# Altium schematic symbol library SEMATIK_LIB.SchLib: 632 symbols (part 2 of 21)
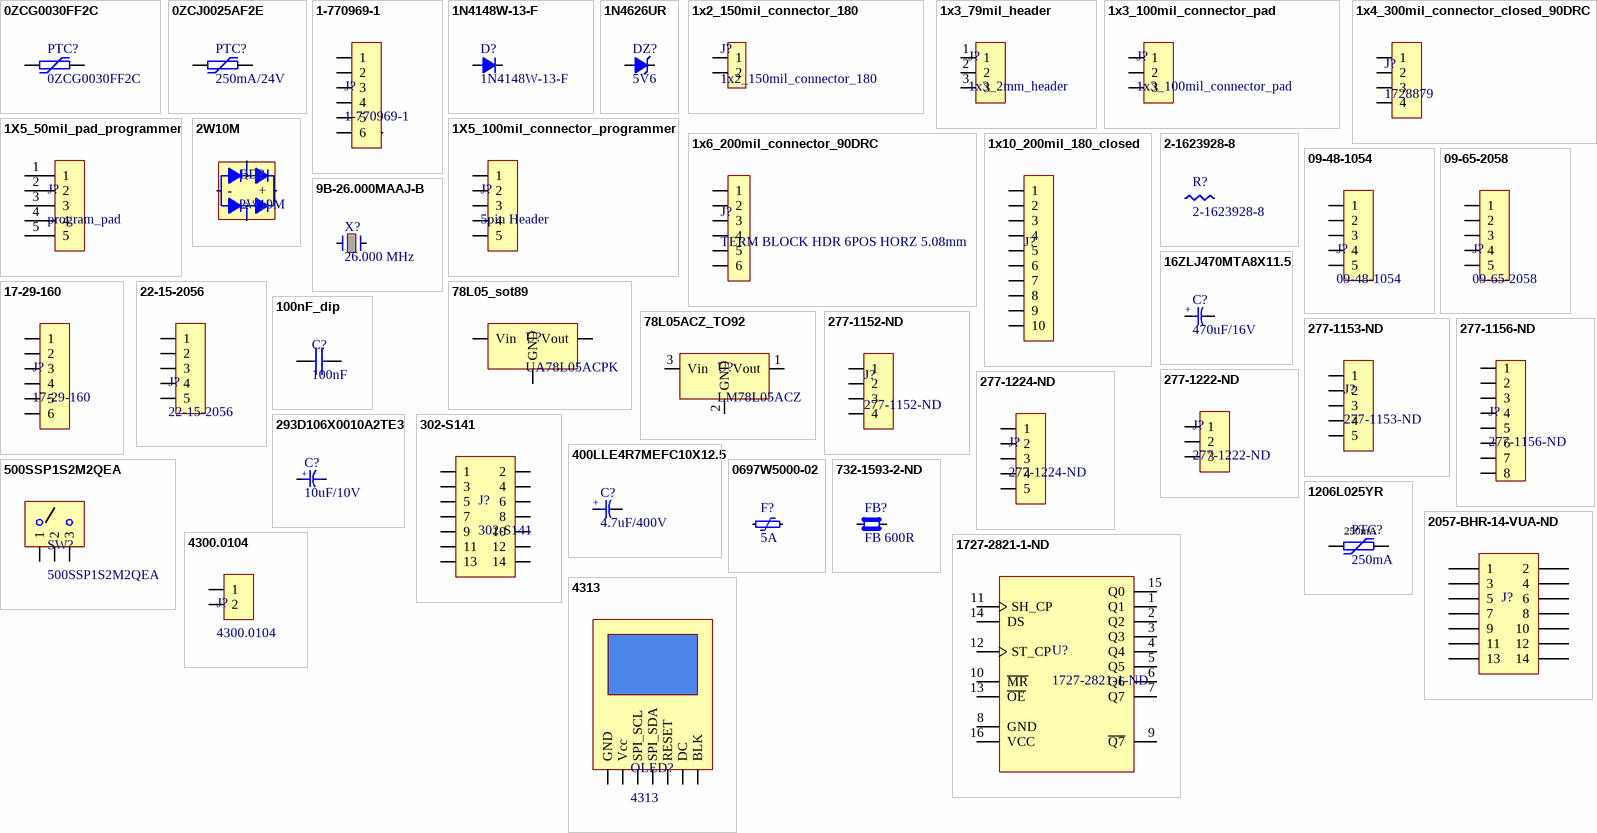
[diagram p17: symbols 0ZCG0030FF2C to 4313]

## 732-1593-2-ND
designator FB?, comment FB 600R
FERRITE BEAD 600 OHM 100MHz 0603 1LN; Manufacturer: Wurth Electronics Inc.; Manufacturer Part Number: 742792651; Filter Type: Signal Line; Current Rating (Max): 1A; DC Resistance (DCR) (Max): 200 mOhm; Color: Black; Number of Positions: 5; Connector Type: Header,Socket; Pitch: 0.1inch; Inductance: 0.36H; Tolerance: 25%; Resistance: 200mR; Number of Lines: 1; Supplier 1: Digi-Key; RoHS: RoHS Compliant; Category: Filters; Stock 1: 272887; Pricing 1: 1 = 0,17000, 50 = 0,16800, 100 = 0,15500, 500 = 0,14800, 1000 = 0,14100, 2000 = 0,13400 (USD); Packaging: Cut Tape (CT); Part Status: Active; Ratings: -; Operating Temperature: -55°C ~ 125°C; Package / Case: 0603 (1608 Metric); Mounting Type: Surface Mount; Height (Max): 0.039" (1.00mm); Size / Dimension: 0.063" L x 0.032" W (1.60mm x 0.80mm); ComponentLink1URL: https://katalog.we-online.de/pbs/datasheet/742792651.pdf; ComponentLink1Description: https://katalog.we-online.de/pbs/datasheet/742792651.pdf; Supplier Part Number 1: 732-1593-1-ND; Supplier 2: Digi-Key; Stock 2: 18822; Pricing 2: 1=0.47, 10=0.443, 100=0.3395, 500=0.2952, 1000=0.24354, 5000=0.21402, 10000=0.2132 (USD); Mount: Through Hole; Contact Plating: Tin; Contact Material: Bronze; Housing Material: Plastic; Package Quantity: 1000; Number of Rows: 1; Termination: Solder; Length: 13.2mm; Height: 8.5mm; Width: 2.5mm; Lead Free: Lead Free; Case/Package: SMD/SMT; Weight: 0.000141oz; Core Material: Ferrite; Case Code (Metric): 1608; Case Code (Imperial): 0603; Material: Ferrite; Min Operating Temperature: -55°C; Max Operating Temperature: 125°C; Current Rating: 1A; Impedance: 600R; Max Current Rating: 1A; DC Resistance (DCR): 200mR; Max DC Current: 1A; Test Frequency: 100MHz; Depth: 0.8mm; REACH SVHC: Unknown; ComponentLink2URL: https://datasheet.ciiva.com/11803/0900766b80d2e079-11803680.pdf?src-supplier=RSComponents; ComponentLink2Description: https://datasheet.ciiva.com/11803/0900766b80d2e079-11803680.pdf?src-supplier=RSComponents; ComponentLink3URL: https://datasheet.ciiva.com/1475/1705833-1475349.pdf?src-supplier=Farnell; ComponentLink3Description: https://datasheet.ciiva.com/1475/1705833-1475349.pdf?src-supplier=Farnell; ComponentLink4URL: https://datasheet.ciiva.com/1013/742792651-1013527.pdf?src-supplier=Digi-Key; ComponentLink4Description: https://datasheet.ciiva.com/1013/742792651-1013527.pdf?src-supplier=Digi-Key; ComponentLink5URL: https://datasheet.ciiva.com/4940/742792651-72243-4940492.pdf?src-supplier=Mouser; ComponentLink5Description: https://datasheet.ciiva.com/4940/742792651-72243-4940492.pdf?src-supplier=Mouser; ComponentLink6URL: https://datasheet.ciiva.com/1013/742792651-1013528.pdf?src-supplier=Digi-Key; ComponentLink6Description: https://datasheet.ciiva.com/1013/742792651-1013528.pdf?src-supplier=Digi-Key; ComponentLink7URL: https://datasheet.ciiva.com/1013/742792651-1013529.pdf?src-supplier=Digi-Key; ComponentLink7Description: https://datasheet.ciiva.com/1013/742792651-1013529.pdf?src-supplier=Digi-Key; ComponentLink8URL: https://datasheet.ciiva.com/22711/1705833-22711420.pdf?src-supplier=Element14; ComponentLink8Description: https://datasheet.ciiva.com/22711/1705833-22711420.pdf?src-supplier=Element14
footprint FERRITEBEAD_0603
pins: 1, 2

## 1206L025YR
designator PTC?, comment 250mA
PTC RESET FUSE 16V 250MA 1206; Manufacturer 1: Littelfuse; Manufacturer Part Number 1: 1206L025YR; Current Rating: 100A; Max Power Dissipation: 600mW; Resistance: 2.3R; Trip Current: 500mA; Time to Trip: 0.08s; Approvals: cULus,TUV; Supplier 1: Digi-Key; Stock 1: 23902; Pricing 1: 1=0,50000, 5=0,49000, 10=0,47500, 50=0,39940, 100=0,33150, 250=0,30140, 500=0,25620, 1000=0,22605 (USD); RoHS: Yes; Case/Package: 1206; Terminal Material: Copper; Case Code (Imperial): 1206; Case Code (Metric): 3216; Min Operating Temperature: -40°C; Max Operating Temperature: 85°C; Operating Supply Voltage: 16V; Package Quantity: 4000; Packaging: Tape and Reel; Power Dissipation: 600mW; Max Current Rating: 100A; Voltage Rating: 16V; Hold Current: 250mA; Termination: SMD/SMT; Voltage Rating (DC): 16V; Max Voltage Rating (DC): 16V; Working Voltage: 16V; Length: 3.4mm; Height: 1mm; Width: 1.8mm; Lead Free: Lead Free; REACH SVHC: No SVHC; ComponentLink1URL: https://datasheet.ciiva.com/1273/48531-1273617.pdf?src-supplier=Element14; ComponentLink1Description: https://datasheet.ciiva.com/1273/48531-1273617.pdf?src-supplier=Element14; ComponentLink2URL: https://datasheet.ciiva.com/30470/0900766b8128f4fb-30470037.pdf?src-supplier=RSComponents; ComponentLink2Description: https://datasheet.ciiva.com/30470/0900766b8128f4fb-30470037.pdf?src-supplier=RSComponents; ComponentLink3URL: https://datasheet.ciiva.com/46385/48531-46385144.pdf?src-supplier=Element14; ComponentLink3Description: https://datasheet.ciiva.com/46385/48531-46385144.pdf?src-supplier=Element14; ComponentLink4URL: https://datasheet.ciiva.com/325/littelfuse-ptc-1206l-325738.pdf?src-supplier=Digi-Key; ComponentLink4Description: https://datasheet.ciiva.com/325/littelfuse-ptc-1206l-325738.pdf?src-supplier=Digi-Key; ComponentLink5URL: https://datasheet.ciiva.com/325/littelfuse-ptc-1206l-325739.pdf?src-supplier=Digi-Key; ComponentLink5Description: https://datasheet.ciiva.com/325/littelfuse-ptc-1206l-325739.pdf?src-supplier=Digi-Key; ComponentLink6URL: https://datasheet.ciiva.com/15187/getdatasheetpartid-93576-15187051.pdf?src-supplier=Verical; ComponentLink6Description: https://datasheet.ciiva.com/15187/getdatasheetpartid-93576-15187051.pdf?src-supplier=Verical; ComponentLink7URL: https://datasheet.ciiva.com/325/littelfuse-ptc-1206l-325740.pdf?src-supplier=Digi-Key; ComponentLink7Description: https://datasheet.ciiva.com/325/littelfuse-ptc-1206l-325740.pdf?src-supplier=Digi-Key; ComponentLink8URL: https://datasheet.ciiva.com/28410/683946-28410797.pdf?src-supplier=Element14; ComponentLink8Description: https://datasheet.ciiva.com/28410/683946-28410797.pdf?src-supplier=Element14; ComponentLink9URL: https://datasheet.ciiva.com/22714/48531-22714581.pdf?src-supplier=Element14; ComponentLink9Description: https://datasheet.ciiva.com/22714/48531-22714581.pdf?src-supplier=Element14; Supplier Part Number 1: F2110CT-ND
pins: 1, 2

## 1727-2821-1-ND
designator U?
74HC595-IC SHIFT REGISTER 8BIT 16SOIC; Manufacturer: Nexperia USA Inc.; Manufacturer Part Number: 74HC595D,118; Output Type: Tri-State; Function: Serial to Parallel, Serial; Voltage - Supply: 2 V ~ 6 V; Supplier 1: Digi-Key; RoHS: RoHS Compliant; Category: Integrated Circuits (ICs); Stock 1: 68927; Pricing 1: 1=0.43, 10=0.321, 100=0.1998, 500=0.13674, 1000=0.10518 (USD); Packaging: Cut Tape (CT); Part Status: Active; Logic Type: Shift Register; Operating Temperature: -40°C ~ 125°C; Mounting Type: Surface Mount; Package / Case: 16-SOIC (0.154", 3.90mm Width); Supplier Device Package: 16-SO; Base Part Number: 74HC595; ComponentLink1URL: https://assets.nexperia.com/documents/data-sheet/74HC_HCT595.pdf; ComponentLink1Description: https://assets.nexperia.com/documents/data-sheet/74HC_HCT595.pdf; Supplier Part Number 1: 1727-2821-1-ND
footprint SO16
pins: 1 Q1, 2 Q2, 3 Q3, 4 Q4, 5 Q5, 6 Q6, 7 Q7, 8 GND, 9 ~{Q7}, 10 ~{MR}, 11 SH_CP, 12 ST_CP, 13 ~{OE}, 14 DS, 15 Q0, 16 VCC

## 2057-BHR-14-VUA-ND
designator J?  (value not drawn)
BOX HEADER 14P 2.54MM PITCH PLUG; System: Connector; Supplier 1: Digi-Key; Supplier Part Number 1: 2057-BHR-14-VUA-ND
footprint 2x7_100mil_boxheader_idc14
pins: 1, 2, 3, 4, 5, 6, 7, 8, 9, 10, 11, 12, 13, 14

## 4300.0104
designator J?
CONN JACK POWER 2570 IEC APPLIANCE INLET C8, PCB; Manufacturer: Schurter; Connector Type: Receptacle; Current: 2.5A; Fuse: No; Number of Positions: 2; Ratings: IP20; Approvals: UL,VDE,CCC; Supplier 1: Digi-Key; Manufacturer Part Number: 4300.0104; Stock 1: 2832; Pricing 1: 1 = 0,93000, 50 = 0,67600, 100 = 0,51600, 500 = 0,36400, 1000 = 0,35640 (USD); RoHS: No; Mount: Through Hole,Panel,Snap in; Packaging: Bulk; Termination: Quick Connect; Flammability Rating: UL94 V-0; ComponentLink1URL: https://us.schurter.com/bundles/snceschurter/epim/_ProdPool_/newDS/en/typ_2570.pdf?src-supplier=Digi-Key; ComponentLink1Description: https://us.schurter.com/bundles/snceschurter/epim/_ProdPool_/newDS/en/typ_2570.pdf?src-supplier=Digi-Key; Supplier Part Number 1: 486-4133-ND
footprint CONN_JACK_POWER
footprint CONN_JACK_POWER_CHINA
pins: 1, 2

## 4313
designator OLED?
OLED TFT LCD 1.3" 240x240; Manufacturer: Adafruit Industries; Supplier 1: Mouser; Manufacturer Part Number: 4313; Stock 1: 125; Pricing 1: 1 = 16,95000, 10 = 16,95000, 50 = 16,95000, 100 = 16,95000, 1000 = 16,95000, 10000 = 16,95000 (USD); Supplier Part Number 1: 485-4313
footprint OLED_1.3_240x240
pins: 1 GND, 2 Vcc, 3 SPI_SCL, 4 SPI_SDA, 5 RESET, 6 DC, 7 BLK

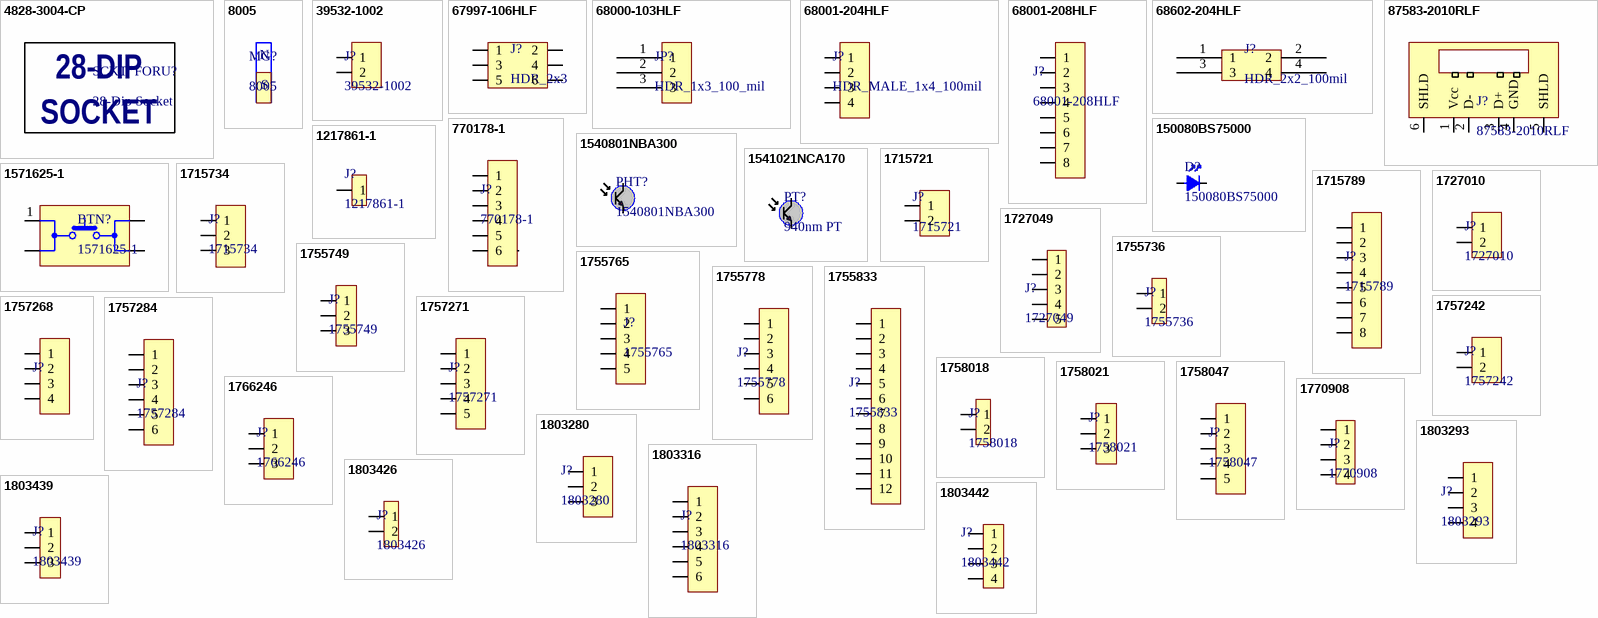
[diagram p1: symbols 4828-3004-CP to 1803442]

## 4828-3004-CP
designator SCKT, comment FORU?  28-Dip Socket
CONN IC DIP SOCKET 28POS TIN; Manufacturer: 3M; Manufacturer Part Number: 4828-3004-CP; Number of Positions or Pins (Grid): 28 (2 x 14); Pitch - Mating: 0.100" (2.54mm); Material Flammability Rating: UL94 V-0; Supplier 1: Digi-Key; RoHS: RoHS Compliant; Category: Connectors, Interconnects; Stock 1: 11335; Pricing 1: 1=0.73, 10=0.638, 25=0.6, 50=0.575, 100=0.55, 250=0.5, 500=0.45, 1000=0.4, 2500=0.3625 (USD); Packaging: Tube; Part Status: Active; Type: DIP, 0.3" (7.62mm) Row Spacing; Contact Finish - Mating: Tin; Contact Finish Thickness - Mating: 35µin (0.90µm); Contact Material - Mating: Phosphor Bronze; Mounting Type: Through Hole; Features: Open Frame; Termination: Solder; Pitch - Post: 0.100" (2.54mm); Contact Finish - Post: Tin; Contact Finish Thickness - Post: 35µin (0.90µm); Contact Material - Post: Phosphor Bronze; Housing Material: Polyester, Glass Filled; Operating Temperature: -25°C ~ 85°C; Termination Post Length: -; Contact Resistance: -; ComponentLink1URL: http://multimedia.3m.com/mws/media/218496O/3mtm-dip-socket-4800-series-ts1099.pdf; ComponentLink1Description: http://multimedia.3m.com/mws/media/218496O/3mtm-dip-socket-4800-series-ts1099.pdf; Supplier Part Number 1: 3M5480-ND
footprint 28_DIP_SOCKET_100mil
text: 28-DIP; SOCKET

## 8005
designator MG?
MAGNET ROUND NDFEB AXIAL; Manufacturer: Radial Magnet; Shape: Cylindrical; Supplier 1: Digi-Key; Manufacturer Part Number: 8005; RoHS: Yes; Category: Hardware, Fasteners; Stock 1: 4256; Pricing 1: 1=0,28000, 5=0,26200, 10=0,23300, 25=0,21440, 50=0,17140, 100=0,14690, 500=0,12852, 1000=0,11016, 5000=0,09792 (USD); Case/Package: Axial; Material: Ferrite; ComponentLink1URL: http://radialmagnet.com/wp-content/uploads/2017/01/Disk%20Neodymium%20Magnets%20N35-8005.pdf?src-supplier=Digi-Key; ComponentLink1Description: http://radialmagnet.com/wp-content/uploads/2017/01/Disk%20Neodymium%20Magnets%20N35-8005.pdf?src-supplier=Digi-Key; Supplier Part Number 1: 469-1031-ND
footprint magnet_0.250x0.100h
text: N; S

## 39532-1002
designator J?
TERM BLOCK 2 POS 5.08MM 90 DEG BLACK; Manufacturer 1: Molex; Description 1: Conn Shrouded Header (4 Sides) HDR 2 POS 5.08mm Solder RA Thru-Hole Eurostyle™; Number of Positions: 2; Current Rating: 15A; Voltage Rating: 300V; Gender: Male; Max Voltage Rating (DC): 300.3kV; Connector Type: Terminal Block; Wire/Cable Gauge: 12AWG; Supplier 1: Digi-Key; Manufacturer Part Number 1: 39532-1002; Stock 1: 7734; Pricing 1: 1=0.54, 10=0.51, 100=0.391, 500=0.34, 1000=0.2805, 5000=0.2465, 10000=0.2295 (USD); Mount: Through Hole; Contact Plating: Tin; Contact Material: Brass; Color: Black; Housing Color: Black; Housing Material: Nylon; Min Operating Temperature: -40°C; Max Operating Temperature: 105°C; Termination: Solder; Number of Contacts: 2; Orientation: Horizontal; Number of Rows: 1; Package Quantity: 1240; Number of Circuits: 2; Length: 12.2mm; Pitch: 5.08mm; Width: 12mm; REACH SVHC: Unknown; ELV: Compliant; Lead Free: Lead Free; Flammability Rating: UL94 V-0; ComponentLink1URL: http://www.mouser.com/ds/2/276/0395321002_TERMINAL_BLOCKS-166037.pdf?src-supplier=Mouser; ComponentLink1Description: http://www.mouser.com/ds/2/276/0395321002_TERMINAL_BLOCKS-166037.pdf?src-supplier=Mouser; Supplier Part Number 1: WM7845-ND
footprint SOCKET_5.08_1X2_90_CLOSE_BLACK
pins: 1, 2

## 67997-106HLF
designator J?, comment HDR_2x3
CONN HEADER 6POS .100 STR 30AU; Manufacturer: Amphenol FCI; Manufacturer Part Number: 67997-106HLF; Pitch - Mating: 0.100" (2.54mm); Number of Positions: 6; Number of Positions Loaded: All; Style: Board to Board; Shrouding: Unshrouded; Contact Length - Mating: 0.230" (5.84mm); Contact Length - Post: 0.120" (3.05mm); Overall Contact Length: 0.450" (11.43mm); Material Flammability Rating: UL94 V-0; Supplier 1: Digi-Key; RoHS: RoHS Compliant; Category: Connectors, Interconnects; Stock 1: 1041; Pricing 1: 1=1.65, 10=1.493, 100=1.2795, 500=1.06628, 1000=0.91395, 5000=0.81037, 10000=0.79209 (USD); Packaging: Bulk; Part Status: Active; Connector Type: Header; Contact Type: Male Pin; Number of Rows: 2; Row Spacing - Mating: 0.100" (2.54mm); Mounting Type: Through Hole; Termination: Solder; Fastening Type: Push-Pull; Insulation Height: 0.100" (2.54mm); Contact Shape: Square; Contact Finish - Mating: Gold or Gold, GXT™; Contact Finish Thickness - Mating: 30µin (0.76µm); Contact Finish - Post: -; Contact Material: Phosphor Bronze; Insulation Material: -; Features: -; Operating Temperature: -; Ingress Protection: -; Insulation Color: Black; Current Rating: -; Voltage Rating: -; Mated Stacking Heights: -; Contact Finish Thickness - Post: -; Applications: -; ComponentLink1URL: http://portal.fciconnect.com/Comergent//fci/drawing/67996.pdf; ComponentLink1Description: http://portal.fciconnect.com/Comergent//fci/drawing/67996.pdf; Supplier Part Number 1: 609-3393-ND
footprint HDR_2x3_100mil
pins: 1, 2, 3, 4, 5, 6

## 68000-103HLF
designator JP?, comment HDR_1x3_100_mil
BERGSTIK II .100" SR STRAIGHT; Manufacturer: Amphenol FCI; Manufacturer Part Number: 68000-103HLF; Connector Type: Header; Pitch - Mating: 0.100" (2.54mm); Number of Positions: 3; Number of Positions Loaded: All; Style: Board to Board; Shrouding: Unshrouded; Contact Length - Mating: 0.230" (5.84mm); Contact Length - Post: 0.095" (2.41mm); Overall Contact Length: 0.425" (10.80mm); Material Flammability Rating: UL94 V-0; Supplier 1: Digi-Key; RoHS: RoHS Compliant; Category: Connectors, Interconnects; Stock 1: 38127; Pricing 1: 1=0.27, 10=0.258, 100=0.1803, 500=0.15456, 1000=0.1288, 5000=0.1104, 10000=0.10304 (USD); Packaging: Bulk; Part Status: Active; Contact Type: Male Pin; Number of Rows: 1; Row Spacing - Mating: -; Mounting Type: Through Hole; Termination: Solder; Fastening Type: Push-Pull; Insulation Height: 0.100" (2.54mm); Contact Shape: Square; Contact Finish - Mating: Gold or Gold, GXT™; Contact Finish Thickness - Mating: 30µin (0.76µm); Contact Finish - Post: -; Contact Material: Phosphor Bronze; Insulation Material: -; Features: -; Operating Temperature: -; Ingress Protection: -; Insulation Color: Black; Current Rating: -; Voltage Rating: -; Mated Stacking Heights: -; Contact Finish Thickness - Post: -; Applications: -; ComponentLink1URL: http://portal.fciconnect.com/Comergent//fci/drawing/68000.pdf; ComponentLink1Description: http://portal.fciconnect.com/Comergent//fci/drawing/68000.pdf; Supplier Part Number 1: 609-3461-ND
footprint HDR_MALE_1x3_100mil
pins: 1, 2, 3

## 68001-204HLF
designator J?, comment HDR_MALE_1x4_100mil
CONN HEADER 4POS .100 STR 15AU; Manufacturer: Amphenol FCI; Manufacturer Part Number: 68001-204HLF; Pitch - Mating: 0.100" (2.54mm); Number of Positions: 4; Number of Positions Loaded: All; Style: Board to Board; Shrouding: Unshrouded; Contact Length - Mating: 0.230" (5.84mm); Contact Length - Post: 0.120" (3.05mm); Overall Contact Length: 0.450" (11.43mm); Material Flammability Rating: UL94 V-0; Supplier 1: Digi-Key; RoHS: RoHS Compliant; Category: Connectors, Interconnects; Stock 1: 9746; Pricing 1: 1=0.35, 10=0.331, 100=0.2315, 500=0.19846, 1000=0.16538, 5000=0.14175, 10000=0.1323 (USD); Packaging: Bulk; Part Status: Active; Connector Type: Header; Contact Type: Male Pin; Number of Rows: 1; Row Spacing - Mating: -; Mounting Type: Through Hole; Termination: Solder; Fastening Type: Push-Pull; Insulation Height: 0.100" (2.54mm); Contact Shape: Square; Contact Finish - Mating: Gold or Gold, GXT™; Contact Finish Thickness - Mating: 15µin (0.38µm); Contact Finish - Post: -; Contact Material: Phosphor Bronze; Insulation Material: -; Features: -; Operating Temperature: -; Ingress Protection: -; Insulation Color: Black; Current Rating: -; Voltage Rating: -; Mated Stacking Heights: -; Contact Finish Thickness - Post: -; Applications: -; ComponentLink1URL: http://portal.fciconnect.com/Comergent//fci/drawing/68000.pdf; ComponentLink1Description: http://portal.fciconnect.com/Comergent//fci/drawing/68000.pdf; Supplier Part Number 1: 609-3402-ND
footprint HDR_MALE_1x4_100mil
pins: 1, 2, 3, 4

## 68001-208HLF
designator J?
CONN HEADER 8POS 2.54MM; Manufacturer: Amphenol FCI; Number of Positions: 8; Connector Type: Male Pin; Voltage Rating: 1.5kV; Current Rating: 3A; Gender: Male; Insulation Resistance: 5GR; Contact Post Length: 3.05mm; Supplier 1: Digi-Key; Manufacturer Part Number: 68001-208HLF; Stock 1: 4105; Pricing 1: 1 = 0,73000, 10 = 0,68300, 100 = 0,52330, 500 = 0,45500, 1000 = 0,37538, 5000 = 0,32988, 10000 = 0,30713 (USD); RoHS: Yes; Mount: Through Hole; Contact Plating: Gold,GXT; Contact Material: Bronze; Color: Black; Housing Material: Thermoplastic; Min Operating Temperature: -65°C; Max Operating Temperature: 125°C; Number of Rows: 1; Packaging: Bulk; Package Quantity: 100; Termination: Solder; Number of Contacts: 8; Contact Gender: Male; Pitch: 2.54mm; Contact Mating Length: 0.23inch; Radiation Hardening: No; Flammability Rating: UL94 V-0; ComponentLink1URL: https://datasheet.ciiva.com/728/68000-728965.pdf?src-supplier=Digi-Key; ComponentLink1Description: https://datasheet.ciiva.com/728/68000-728965.pdf?src-supplier=Digi-Key; ComponentLink2URL: https://datasheet.ciiva.com/22873/70302500-22873147.pdf?src-supplier=Allied+Electronics; ComponentLink2Description: https://datasheet.ciiva.com/22873/70302500-22873147.pdf?src-supplier=Allied+Electronics; ComponentLink3URL: https://datasheet.ciiva.com/10142/68000-10142727.pdf?src-supplier=Avnet; ComponentLink3Description: https://datasheet.ciiva.com/10142/68000-10142727.pdf?src-supplier=Avnet; Supplier Part Number 1: 609-3278-ND
footprint HDR_MALE_1x8_100mil
pins: 1, 2, 3, 4, 5, 6, 7, 8

## 68602-204HLF
designator J?, comment HDR_2x2_100mil
CONN HEADER 4POS .100 STR 15AU; Manufacturer: Amphenol FCI; Manufacturer Part Number: 68602-204HLF; Pitch - Mating: 0.100" (2.54mm); Number of Positions: 4; Number of Positions Loaded: All; Style: Board to Board; Shrouding: Unshrouded; Contact Length - Mating: 0.230" (5.84mm); Contact Length - Post: 0.150" (3.81mm); Overall Contact Length: 0.480" (12.19mm); Material Flammability Rating: UL94 V-0; Supplier 1: Digi-Key; RoHS: RoHS Compliant; Category: Connectors, Interconnects; Stock 1: 3042; Pricing 1: 1=0.31, 10=0.295, 100=0.2065, 500=0.17704, 1000=0.14753, 5000=0.12645, 10000=0.11802 (USD); Packaging: Bulk; Part Status: Active; Connector Type: Header; Contact Type: Male Pin; Number of Rows: 2; Row Spacing - Mating: 0.100" (2.54mm); Mounting Type: Through Hole; Termination: Solder; Fastening Type: Push-Pull; Insulation Height: 0.100" (2.54mm); Contact Shape: Square; Contact Finish - Mating: Gold or Gold, GXT™; Contact Finish Thickness - Mating: 15µin (0.38µm); Contact Finish - Post: -; Contact Material: Phosphor Bronze; Insulation Material: -; Features: -; Operating Temperature: -; Ingress Protection: -; Insulation Color: Black; Current Rating: -; Voltage Rating: -; Mated Stacking Heights: -; Contact Finish Thickness - Post: -; Applications: -; ComponentLink1URL: http://portal.fciconnect.com/Comergent//fci/drawing/67996.pdf; ComponentLink1Description: http://portal.fciconnect.com/Comergent//fci/drawing/67996.pdf; Supplier Part Number 1: 609-3369-ND
footprint HDR_2x2_100mil
pins: 1, 2, 3, 4

## 87583-2010RLF
designator J?
Conn USB Type A RCP 4 POS Solder RA SMD 4 Terminal 1 Port Tube; Manufacturer: Amphenol FCI; Plating: Nickel; Gender: Receptacle; Number of Contacts: 4; Number of Ports: 1; Connector Type: USB,Receptacle; Supplier 1: Digi-Key; Manufacturer Part Number: 87583-2010RLF; Stock 1: 12958; Pricing 1: 1 = 0,94000, 10 = 0,82300, 25 = 0,77480, 50 = 0,74260, 100 = 0,71030 (USD); RoHS: Yes; Mount: Surface Mount,Horizontal; Housing Material: Thermoplastic; Contact Material: Copper Alloy; Color: White; Contact Plating: GXT; Number of Terminals: 4; Packaging: Tape and Reel; Package Quantity: 250; Orientation: Right Angle; Number of Positions: 4; Termination: Solder; Length: 14.5mm; Depth: 14mm; Radiation Hardening: No; Flammability Rating: UL94 V-0; ComponentLink1URL: https://datasheet.ciiva.com/3095/87583-3095132.pdf?src-supplier=Avnet; ComponentLink1Description: https://datasheet.ciiva.com/3095/87583-3095132.pdf?src-supplier=Avnet; Supplier Part Number 1: 609-5390-6-ND
footprint 87583-2010RLF
pins: 1 Vcc, 2 D-, 3 D+, 4 GND, 5 SHLD, 6 SHLD

## 150080BS75000
designator D?
LED BLUE CLEAR 0805 SMD; Manufacturer 1: Wurth Electronics; Description 1: WURTH ELEKTRONIK - 150080BS75000 - LED, 0805, BLUE, 145MCD, 470NM; Luminous Intensity: 145mcd; Viewing Angle: 140°; Forward Voltage: 3.2V; Wavelength: 470nm; Lens Style: Clear,Rectangular; Forward Current: 30mA; Test Current: 20mA; Supplier 1: Digi-Key; Manufacturer Part Number 1: 150080BS75000; Stock 1: 16365; Pricing 1: 1=0.17, 50=0.16, 100=0.137, 500=0.118 (USD); Mount: Surface Mount; Case/Package: 0805; Color: Blue; Case Code (Metric): 2012; Case Code (Imperial): 0805; Min Operating Temperature: -40°C; Max Operating Temperature: 85°C; Package Quantity: 4000; Packaging: Tape and Reel; Dominant Wavelength: 470nm; Length: 2mm; Height: 0.7mm; Width: 1.25mm; REACH SVHC: Unknown; Lead Free: Lead Free; ComponentLink1URL: http://www.farnell.com/datasheets/1740214.pdf?src-supplier=Newark; ComponentLink1Description: http://www.farnell.com/datasheets/1740214.pdf?src-supplier=Newark; ComponentLink2URL: http://www.farnell.com/datasheets/1740214.pdf?src-supplier=Element14; ComponentLink2Description: http://www.farnell.com/datasheets/1740214.pdf?src-supplier=Element14; ComponentLink3URL: http://katalog.we-online.de/led/datasheet/150080BS75000.pdf?src-supplier=Digi-Key; ComponentLink3Description: http://katalog.we-online.de/led/datasheet/150080BS75000.pdf?src-supplier=Digi-Key; ComponentLink4URL: https://katalog.we-online.de/led/datasheet/150080BS75000.pdf?src-supplier=Digi-Key; ComponentLink4Description: https://katalog.we-online.de/led/datasheet/150080BS75000.pdf?src-supplier=Digi-Key; ComponentLink5URL: http://www.produktinfo.conrad.com/datenblaetter/750000-774999/759433-da-01-en-CHIPLED_0805_W_KL_BLAU_150080BS75000.pdf?src-supplier=Conrad; ComponentLink5Description: http://www.produktinfo.conrad.com/datenblaetter/750000-774999/759433-da-01-en-CHIPLED_0805_W_KL_BLAU_150080BS75000.pdf?src-supplier=Conrad; Supplier Part Number 1: 732-4982-1-ND
footprint LED_0805_BLUE
pins: 1 Katot, 2 Anot

## 770178-1
designator J?
CONN HEADER 6POS 4.14MM VERT; Manufacturer: TE Connectivity; Max Voltage Rating (AC): 600V; Current Rating: 9.5A; Number of Positions: 6; Number of Ports: 1; Connector Type: Pin; Gender: Male; Circuit Application: Power; Connector System: Wire-to-Board; Plating Thickness: 150um; Contact Retention: No (Without); Mating Alignment: Yes (With); PCB Mount Retention: With; PCB Mounting Orientation: Vertical; VDE Tested: Yes; Pitch: 0.162inch; Row Spacing: 0.162mm; Approvals: CSA; Supplier 1: Digikey; Manufacturer Part Number: 770178-1; Stock 1: 1594; Pricing 1: 1=1.83, 10=1.662, 100=1.4248, 500=1.18732, 1000=1.01771, 5000=0.90237, 10000=0.88201 (USD); Mount: Through Hole; Contact Material: Brass; Contact Plating: Lead,Tin; Color: White; Number of Terminals: 6; Housing Material: Nylon; Housing Color: White; Min Operating Temperature: -67°C; Max Operating Temperature: 221°C; Number of Rows: 2; Package Quantity: 200; Fastening Type: Ramp; Packaging: Bag; Contact Gender: Male; Voltage Rating: 600V; Termination: Solder; Number of Contacts: 6; Orientation: Straight; Number of Circuits: 6; Mating Retention: Yes (With); Number of Power Positions: 6; PCB Mount Alignment: No (Without); Sealable: No (Without); Strain Relief: No (Without); Contact Current Rating: 9.5A; Length: 13.97mm; Height: 13.49mm; Width: 9.83mm; Depth: 11.89mm; Radiation Hardening: No; REACH SVHC: Unknown; ELV: Non-Compliant; Flammability Rating: UL94 V-0; Lead Free: Contains Lead; ComponentLink1URL: http://www.te.com/commerce/DocumentDelivery/DDEController?Action=showdoc&DocId=Customer+Drawing%7F770178%7FL2%7Fpdf%7FEnglish%7FENG_CD_770178_L2.pdf%7F770178-1&src-supplier=Future+Electronics; ComponentLink1Description: http://www.te.com/commerce/DocumentDelivery/DDEController?Action=showdoc&DocId=Customer+Drawing%7F770178%7FL2%7Fpdf%7FEnglish%7FENG_CD_770178_L2.pdf%7F770178-1&src-supplier=Future+Electronics; ComponentLink2URL: http://www.te.com/commerce/DocumentDelivery/DDEController?Action=srchrtrv&DocNm=770178&DocType=Customer+Drawing&DocLang=English&src-supplier=Digi-Key; ComponentLink2Description: http://www.te.com/commerce/DocumentDelivery/DDEController?Action=srchrtrv&DocNm=770178&DocType=Customer+Drawing&DocLang=English&src-supplier=Digi-Key; ComponentLink3URL: http://www.onlinecomponents.com/productFiles/mf-AMP/eng_cs_82181_softshell_high_density_0508.pdf?src-supplier=Onlinecomponents.com; ComponentLink3Description: http://www.onlinecomponents.com/productFiles/mf-AMP/eng_cs_82181_softshell_high_density_0508.pdf?src-supplier=Onlinecomponents.com; ComponentLink4URL: http://www.jameco.com/Jameco/Products/ProdDS/1934171.pdf?src-supplier=Jameco; ComponentLink4Description: http://www.jameco.com/Jameco/Products/ProdDS/1934171.pdf?src-supplier=Jameco; ComponentLink5URL: http://www.te.com/commerce/DocumentDelivery/DDEController?Action=showdoc&DocId=Catalog+Section%7F82181_SOFTSHELL_HIGH_DENSITY%7F0408%7Fpdf%7FEnglish%7FENG_CS_82181_SOFTSHELL_HIGH_DENSITY_0408.pdf&src-supplier=Avnet; ComponentLink5Description: http://www.te.com/commerce/DocumentDelivery/DDEController?Action=showdoc&DocId=Catalog+Section%7F82181_SOFTSHELL_HIGH_DENSITY%7F0408%7Fpdf%7FEnglish%7FENG_CS_82181_SOFTSHELL_HIGH_DENSITY_0408.pdf&src-supplier=Avnet; ComponentLink6URL: http://www.farnell.com/datasheets/27259.pdf?src-supplier=Element14; ComponentLink6Description: http://www.farnell.com/datasheets/27259.pdf?src-supplier=Element14; Supplier Part Number 1: A25602-ND
footprint 2x3_163mil_pow_connector_180
pins: 1, 2, 3, 4, 5, 6, 7

## 1217861-1
designator J?
CONN QC TAB 0.250 SOLDER; Manufacturer: TE Connectivity; Body Plating: Tin; Body Material: Brass; Insulation: Non-Insulated; Insulated Wire Support: Yes; Gender: Male; Mating Tab Width: 0.25inch; Hole Diameter: 0.055inch; PCB Thickness: 0.062inch; Tab Width: 6.35mm; Tab Thickness: 0.83mm; Tab Length: 0.352inch; Supplier 1: Digi-Key; Manufacturer Part Number: 1217861-1; Stock 1: 139990; Pricing 1: 1 = 0,10000, 10 = 0,09500, 25 = 0,07120, 50 = 0,06100, 100 = 0,05890, 250 = 0,05076, 500 = 0,04874, 1000 = 0,04265, 2500 = 0,03859 (USD); RoHS: Yes; Mount: Through Hole; Material: Brass; Plating: Tin; Terminal Material: Brass; Contact Material: Brass; Contact Plating: Tin; Termination: Tab; Package Quantity: 2000; Packaging: Tape and Reel; Length: 10.21mm; Depth: 7.92mm; REACH SVHC: Unknown; Lead Free: Lead Free; ELV: Compliant; ComponentLink1URL: https://datasheet.ciiva.com/839/eng-cd-1217861-g-basefilename-839090.pdf?src-supplier=Digi-Key; ComponentLink1Description: https://datasheet.ciiva.com/839/eng-cd-1217861-g-basefilename-839090.pdf?src-supplier=Digi-Key; ComponentLink2URL: https://datasheet.ciiva.com/6182/1671888-6182660.pdf?src-supplier=Farnell; ComponentLink2Description: https://datasheet.ciiva.com/6182/1671888-6182660.pdf?src-supplier=Farnell; ComponentLink3URL: https://datasheet.ciiva.com/23773/eng-cd-1217861-f3-23773529.pdf?src-supplier=Newark; ComponentLink3Description: https://datasheet.ciiva.com/23773/eng-cd-1217861-f3-23773529.pdf?src-supplier=Newark; ComponentLink4URL: https://datasheet.ciiva.com/30265/12178611-30265052.pdf?src-supplier=Onlinecomponents.com; ComponentLink4Description: https://datasheet.ciiva.com/30265/12178611-30265052.pdf?src-supplier=Onlinecomponents.com; ComponentLink5URL: https://datasheet.ciiva.com/839/eng-cd-1217861-g-basefilename-839091.pdf?src-supplier=Digi-Key; ComponentLink5Description: https://datasheet.ciiva.com/839/eng-cd-1217861-g-basefilename-839091.pdf?src-supplier=Digi-Key; Supplier Part Number 1: A100452CT-ND
footprint Quick_CONN_TAB6.35mm
pins: 1

## 1540801NBA300
designator PHT?
PHOTOTRANSISTOR 940nm  PHOTOTRANSISTOR CHIP; Manufacturer: Wurth Electronics; Supplier 1: Digi-Key; Manufacturer Part Number: 1540801NBA300; Stock 1: 3964; Pricing 1: 1 = 0,34000, 10 = 0,28000, 50 = 0,22300, 250 = 0,20400, 500 = 0,18500 (USD); RoHS: No; Supplier Part Number 1: 732-1540801NBA300CT-ND
footprint LED_0805
pins: 1 Emiter, 2 Collector

## 1541021NCA170
designator PT?, comment 940nm PT
PHOTOTRANSISTOR 940nm Top View 2-SMD, No Lead; Manufacturer: Würth Elektronik; Manufacturer Part Number: 1541021NCA170; Supplier 1: Digi-Key; Stock 1: 4882; Pricing 1: 1 = 0,58000, 10 = 0,47600, 50 = 0,38200, 250 = 0,34700, 500 = 0,31680 (USD); Supplier Part Number 1: 732-1541021NCA170DKR-ND
footprint PHOTOTRANSISTOR
pins: 1 Collector, 2 Emiter

## 1571625-1
designator BTN?
SWITCH TACTILE SPST-NO 2.5mm 0.05A 24V; Manufacturer: TE Connectivity; Actuator Material: Nylon; Mechanical Life: 2000000Cycles; Actuator Type: Standard; Switch Travel: 0.2mm; Illumination Type: Non-Illuminated; Throw Configuration: SPST; Operating Force: 0.49N; Max Current Rating: 50mA; Max Voltage Rating (DC): 12V; Contact Resistance: 100mR; Switch Function: Off-Mom; Actuator Length: 0.02inch; Supplier 1: Digi-Key; Manufacturer Part Number: 1571625-1; Stock 1: 20717; Pricing 1: 1 = 0,38000, 10 = 0,36400, 25 = 0,34240, 100 = 0,29730, 250 = 0,26972, 500 = 0,25092, 1000 = 0,22583, 2500 = 0,21203, 5000 = 0,19697 (USD); RoHS: Yes; Mount: Surface Mount; Case/Package: SMD/SMT; Housing Material: Polymer; Material: Polyamide; Contact Material: Stainless Steel; Contact Plating: Silver; Min Operating Temperature: -35°C; Max Operating Temperature: 85°C; Termination: J-Lead; Orientation: Straight; Electrical Life: 2000000Cycles; Packaging: Loose Piece; Voltage Rating (DC): 24V; Current Rating: 50mA; Contact Current Rating: 50mA; Package Quantity: 2000; Type: Switch; Length: 6.2mm; Depth: 6.8mm; Radiation Hardening: No; ELV: Compliant; ComponentLink1URL: https://datasheet.ciiva.com/18514/eng-cd-1571625-c-18514221.pdf?src-supplier=Digi-Key; ComponentLink1Description: https://datasheet.ciiva.com/18514/eng-cd-1571625-c-18514221.pdf?src-supplier=Digi-Key; ComponentLink2URL: https://datasheet.ciiva.com/8166/eng-cs-1308111-1-switches-core-program-catalog-0308-8166741.pdf?src-supplier=Avnet; ComponentLink2Description: https://datasheet.ciiva.com/8166/eng-cs-1308111-1-switches-core-program-catalog-0308-8166741.pdf?src-supplier=Avnet; ComponentLink3URL: https://datasheet.ciiva.com/30098/eng-cat-1308390-0904-e12-e14-30098109.pdf?src-supplier=Onlinecomponents.com; ComponentLink3Description: https://datasheet.ciiva.com/30098/eng-cat-1308390-0904-e12-e14-30098109.pdf?src-supplier=Onlinecomponents.com; Supplier Part Number 1: 450-1831-ND
footprint Tact_Switch_smd_6.20x6.20x2.5
pins: 1, 2, 3, 4

## 1715721
designator J?
TERM BLOCK 2POS 5.08MM PCB; Manufacturer: Phoenix Contact; Positions Per Level: 2; Pitch: 0.200" (5.08mm); Mating Orientation: Horizontal with Board; Wire Gauge: 14-30 AWG; Wire Termination: Screw - Rising Cage Clamp; Torque - Screw: 0.5-0.6 Nm (4.4-5.3 Lb-In); Screw Thread: M3; Supplier 1: Digi-Key; Manufacturer Part Number: 1715721; RoHS: RoHS Compliant; Category: Connectors, Interconnects; Stock 1: 9041; Pricing 1: 1=1.27, 10=1.219, 50=1.166, 100=1.1342, 250=1.06, 500=0.9752, 1000=0.901, 2500=0.8586, 5000=0.8056 (USD); Packaging: Bulk; Part Status: Active; Mounting Type: Through Hole; Features: Interlocking (Side); Color: Green; Operating Temperature: -; Housing Material: Polyamide (PA), Nylon; Contact Material - Plating: -; Clamp Material - Plating: -; Screw Material - Plating: -; ComponentLink1URL: https://media.digikey.com/pdf/Data%20Sheets/Phoenix%20Contact%20PDFs/1715721.pdf; ComponentLink1Description: https://media.digikey.com/pdf/Data%20Sheets/Phoenix%20Contact%20PDFs/1715721.pdf; Supplier Part Number 1: 277-1263-ND
footprint SOCKET_5.08_1X2_PCB_NO1
pins: 1, 2

## 1715734
designator J?
TERM BLOCK 3POS SIDE ENT 5.08MM PCB; Manufacturer: Phoenix Contact; Number of Levels: 1; Number of Positions Per Level: 3; Current: 15A; Voltage: 300V; Connector Type: Screw; Max Current Rating: 22A; Current Rating: 17.5A; Max Supply Voltage: 250V; Voltage Rating: 400V; Stripping Length: 7mm; Wire/Cable Gauge: 26AWG; Wire Gauge (Max): 30AWG; Wire Gauge (Min): 14AWG; Approvals: UL,CSA,cULus; Supplier 1: Digi-Key; Manufacturer Part Number: 1715734; Stock 1: 2824; Pricing 1: 1 = 1,97000, 10 = 1,88600, 50 = 1,80400, 100 = 1,75480, 250 = 1,64000, 500 = 1,50880, 1000 = 1,39400, 2500 = 1,32840, 5000 = 1,24640 (USD); RoHS: Yes; Mount: Through Hole; Number of Pins: 3; Housing Color: Green; Insulation Material: Nylon; Housing Material: Polyamide; Contact Material: Tin; Color: Green; Weight: 0.14286oz; Orientation: Straight; Termination: Screw; Number of Positions: 3; Number of Contacts: 3; Number of Circuits: 3; Number of Rows: 1; Number of Poles: 3; Package Quantity: 50; Packaging: Bulk; Length: 9.8mm; Width: 17.78mm; Height: 17.3mm; Pitch: 5.08mm; Depth: 9.8mm; Radiation Hardening: No; Lead Free: Lead Free; REACH SVHC: No SVHC; Flammability Rating: UL94 V-0; ComponentLink1URL: https://datasheet.ciiva.com/16071/1715734-16071926.pdf?src-supplier=Onlinecomponents.com; ComponentLink1Description: https://datasheet.ciiva.com/16071/1715734-16071926.pdf?src-supplier=Onlinecomponents.com; ComponentLink2URL: https://datasheet.ciiva.com/1120/1508451-1120439.pdf?src-supplier=Farnell; ComponentLink2Description: https://datasheet.ciiva.com/1120/1508451-1120439.pdf?src-supplier=Farnell; ComponentLink3URL: https://datasheet.ciiva.com/15169/getdatasheetpartid-178009-15169703.pdf?src-supplier=Verical; ComponentLink3Description: https://datasheet.ciiva.com/15169/getdatasheetpartid-178009-15169703.pdf?src-supplier=Verical; ComponentLink4URL: https://datasheet.ciiva.com/824/1715734-824312.pdf?src-supplier=Digi-Key; ComponentLink4Description: https://datasheet.ciiva.com/824/1715734-824312.pdf?src-supplier=Digi-Key; ComponentLink5URL: https://datasheet.ciiva.com/23596/1581603-23596239.pdf?src-supplier=Newark; ComponentLink5Description: https://datasheet.ciiva.com/23596/1581603-23596239.pdf?src-supplier=Newark; ComponentLink6URL: https://datasheet.ciiva.com/1118/1508451-1118427.pdf?src-supplier=Element14; ComponentLink6Description: https://datasheet.ciiva.com/1118/1508451-1118427.pdf?src-supplier=Element14; ComponentLink7URL: https://datasheet.ciiva.com/14607/70054417-14607003.pdf?src-supplier=Allied+Electronics; ComponentLink7Description: https://datasheet.ciiva.com/14607/70054417-14607003.pdf?src-supplier=Allied+Electronics; Supplier Part Number 1: 277-1264-ND
footprint SOCKET_5.08_1X3_PCB_NO1
pins: 1, 2, 3

## 1715789
designator J?
TERM BLOCK 8POS 5.08MM PCB; Manufacturer 1: Phoenix Contact; Description 1: CONN TERM BLOCK 8POS 5.08MM PCB; Number of Poles: 8; Voltage Rating: 300V; Max Current Rating: 22A; Max Supply Voltage: 250V; Current Rating: 17.5A; Number of Levels: 1; Current: 15A; Connector Type: Screw,PCB,Terminal Block; Wire Gauge (Max): 26AWG; Wire Gauge (Min): 14AWG; Stripping Length: 7mm; Approvals: UL,CSA,cULus; Supplier 1: Digi-Key; Manufacturer Part Number 1: 1715789; Stock 1: 345; Pricing 1: 1=4.83, 10=4.696, 50=4.389, 100=4.0379, 250=3.73064, 500=3.55512, 1000=3.33564 (USD); Mount: Through Hole; Number of Pins: 8; Weight: 0.40812oz; Color: Green; Housing Color: Green; Housing Material: Polyamide; Insulation Material: Nylon; Contact Material: Tin; Package Quantity: 50; Packaging: Bulk; Number of Rows: 1; Number of Positions Per Level: 8; Voltage: 300V; Termination: Screw; Number of Positions: 8; Number of Contacts: 8; Number of Circuits: 8; Orientation: Straight; Length: 40.64mm; Height: 17.3mm; Width: 13.8mm; Wire/Cable Gauge: 26AWG; Pitch: 5.08mm; Depth: 9.8mm; Radiation Hardening: No; REACH SVHC: No SVHC; Lead Free: Lead Free; Flammability Rating: UL94 V-0; ComponentLink1URL: https://media.digikey.com/pdf/Data%20Sheets/Phoenix%20Contact%20PDFs/1715789.pdf?src-supplier=Digi-Key; ComponentLink1Description: https://media.digikey.com/pdf/Data%20Sheets/Phoenix%20Contact%20PDFs/1715789.pdf?src-supplier=Digi-Key; ComponentLink2URL: http://www.farnell.com/datasheets/2309729.pdf?src-supplier=Farnell; ComponentLink2Description: http://www.farnell.com/datasheets/2309729.pdf?src-supplier=Farnell; ComponentLink3URL: https://www.verical.com/server-webapp/html/getDatasheet?partID=177924&src-supplier=Verical; ComponentLink3Description: https://www.verical.com/server-webapp/html/getDatasheet?partID=177924&src-supplier=Verical; Supplier Part Number 1: 277-1266-ND
footprint SOCKET_5.08_1X8_PCB
pins: 1, 2, 3, 4, 5, 6, 7, 8

## 1727010
designator J?
TERM BLOCK 2POS SIDE ENT 3.81MM PCB; Manufacturer 1: Phoenix Contact; Description 1: TERM BLK 2P SIDE ENT 3.81MM PCB; Number of Positions: 2; Current Rating: 13.5A; Number of Levels: 1; Voltage: 300V; Max Current Rating: 12A; Max Supply Voltage: 160V; Connector Type: Screw,PCB,Terminal Block; Wire Gauge (Max): 26AWG; Wire Gauge (Min): 16AWG; Approvals: UL,CSA; Supplier 1: Digi-Key; Manufacturer Part Number 1: 1727010; Stock 1: 5977; Pricing 1: 1=1.29, 10=1.232, 50=1.1782, 100=1.146, 250=1.071, 500=0.98532, 1000=0.91035, 2500=0.86752, 5000=0.81397 (USD); Mount: Through Hole; Number of Pins: 2; Weight: 0.036685oz; Contact Material: Tin; Color: Green; Housing Color: Green; Housing Material: Polyamide; Insulation Material: Nylon; Packaging: Bulk; Termination: Solder; Number of Contacts: 2; Orientation: Straight; Package Quantity: 50; Number of Rows: 1; Number of Positions Per Level: 2; Current: 13.5A; Number of Poles: 2; Voltage Rating: 300V; Number of Circuits: 2; Length: 7.3mm; Height: 12mm; Width: 12mm; Pitch: 3.81mm; Depth: 7.3mm; Wire/Cable Gauge: 26AWG; Radiation Hardening: No; Lead Free: Lead Free; Flammability Rating: UL94 V-0; REACH SVHC: No SVHC; ComponentLink1URL: http://www.farnell.com/datasheets/100945.pdf?src-supplier=Element14; ComponentLink1Description: http://www.farnell.com/datasheets/100945.pdf?src-supplier=Element14; ComponentLink2URL: https://media.digikey.com/pdf/Data%20Sheets/Phoenix%20Contact%20PDFs/1727010.pdf?src-supplier=Digi-Key; ComponentLink2Description: https://media.digikey.com/pdf/Data%20Sheets/Phoenix%20Contact%20PDFs/1727010.pdf?src-supplier=Digi-Key; ComponentLink3URL: https://www.verical.com/server-webapp/html/getDatasheet?partID=227074&src-supplier=Verical; ComponentLink3Description: https://www.verical.com/server-webapp/html/getDatasheet?partID=227074&src-supplier=Verical; ComponentLink4URL: https://produktinfo.conrad.com/datenblaetter/775000-799999/788566-da-01-en-PRINTKLEMME_1727010_250_ST.pdf?src-supplier=Conrad; ComponentLink4Description: https://produktinfo.conrad.com/datenblaetter/775000-799999/788566-da-01-en-PRINTKLEMME_1727010_250_ST.pdf?src-supplier=Conrad; Supplier Part Number 1: 277-1947-ND
footprint SOCKET_3.81_1X2_PCB
pins: 1, 2

## 1727049
designator J?
TERM BLOCK 5POS 3.81MM PCB; Manufacturer: Phoenix Contact; Number of Levels: 1; Number of Positions Per Level: 5; Current: 13.5A; Voltage: 300V; Connector Type: Screw,PCB,Terminal Block; Max Current Rating: 12A; Current Rating: 10A; Max Supply Voltage: 160V; Wire Gauge (Max): 30AWG; Wire Gauge (Min): 16AWG; Wire/Cable Gauge: 26AWG; Stripping Length: 5mm; Approvals: UL,CSA,cULus,CB; Supplier 1: Digi-Key; Manufacturer Part Number: 1727049; Stock 1: 203; Pricing 1: 1 = 3,24000, 10 = 3,10500, 50 = 2,97000, 100 = 2,88900, 250 = 2,70000, 500 = 2,48400, 1000 = 2,29499, 2500 = 2,18700, 5000 = 2,05200 (USD); RoHS: Yes; Mount: Through Hole; Number of Pins: 5; Housing Material: Polyamide; Color: Green; Contact Material: Tin; Weight: 0.084516oz; Housing Color: Green; Insulation Material: Nylon; Termination: Screw; Number of Positions: 5; Number of Contacts: 5; Number of Circuits: 5; Number of Poles: 5; Package Quantity: 50; Packaging: Bulk; Voltage Rating: 300V; Number of Rows: 1; Orientation: Straight; Length: 7.3mm; Width: 19.04mm; Height: 12mm; Pitch: 3.81mm; Depth: 7.3mm; Flammability Rating: UL94 V-0; REACH SVHC: No SVHC; Lead Free: Lead Free; ComponentLink1URL: https://datasheet.ciiva.com/16071/1727049-16071825.pdf?src-supplier=Onlinecomponents.com; ComponentLink1Description: https://datasheet.ciiva.com/16071/1727049-16071825.pdf?src-supplier=Onlinecomponents.com; ComponentLink2URL: https://datasheet.ciiva.com/823/1727049-823811.pdf?src-supplier=Digi-Key; ComponentLink2Description: https://datasheet.ciiva.com/823/1727049-823811.pdf?src-supplier=Digi-Key; ComponentLink3URL: https://datasheet.ciiva.com/1118/100945-1118599.pdf?src-supplier=Element14; ComponentLink3Description: https://datasheet.ciiva.com/1118/100945-1118599.pdf?src-supplier=Element14; ComponentLink4URL: https://datasheet.ciiva.com/14607/70054360-14607740.pdf?src-supplier=Allied+Electronics; ComponentLink4Description: https://datasheet.ciiva.com/14607/70054360-14607740.pdf?src-supplier=Allied+Electronics; Supplier Part Number 1: 277-1950-ND
footprint SOCKET_3.81_1X5_PCB
pins: 1, 2, 3, 4, 5

## 1755736
designator J?
TERM BLOCK HDR 2POS 180DEG 5.08MM; Manufacturer: Phoenix Contact; Number of Positions: 2; Number of Levels: 1; Pitch: 0.200" (5.08mm); Header Orientation: Vertical; Current - IEC: 12A; Material Flammability Rating: UL94 V-0; Contact Tail Length: 0.154" (3.90mm); Supplier 1: Digi-Key; Manufacturer Part Number: 1755736; RoHS: RoHS Compliant; Category: Connectors, Interconnects; Stock 1: 17633; Pricing 1: 1=0.61, 10=0.587, 50=0.561, 100=0.5457, 250=0.51, 500=0.4692, 1000=0.4335, 2500=0.4131, 5000=0.3876 (USD); Packaging: Bulk; Part Status: Active; Type: Header, Male Pins, Shrouded (4 Side); Positions Per Level: 2; Plug Wire Entry: -; Termination Style: Solder; Mounting Type: Through Hole; Wire Gauge or Range - AWG: -; Wire Gauge or Range - mm²: -; Color: Green; Operating Temperature: -; Contact Mating Finish: Tin; Features: -; Ingress Protection: -; Screw Size: -; Torque - Screw: -; Wire Strip Length: -; Contact Material: -; Housing Material: Polyamide (PA), Nylon; Insulation Height: 0.472" (12.00mm); ComponentLink1URL: https://media.digikey.com/pdf/Data%20Sheets/Phoenix%20Contact%20PDFs/1755736.pdf; ComponentLink1Description: https://media.digikey.com/pdf/Data%20Sheets/Phoenix%20Contact%20PDFs/1755736.pdf; Supplier Part Number 1: 277-1150-ND
footprint SOCKET_5.08_1X2_180_CLOSE
pins: 1, 2

## 1755749
designator J?
TERM BLOCK HDR 3POS VERT 5.08MM CLOSED; Manufacturer: Phoenix Contact; Number of Positions: 3; Number of Levels: 1; Pitch: 0.200" (5.08mm); Header Orientation: Vertical; Current - IEC: 12A; Material Flammability Rating: UL94 V-0; Contact Tail Length: 0.154" (3.90mm); Supplier 1: Digi-Key; Manufacturer Part Number: 1755749; RoHS: RoHS Compliant; Category: Connectors, Interconnects; Stock 1: 7823; Pricing 1: 1=0.98, 10=0.943, 50=0.902, 100=0.8774, 250=0.82, 500=0.7544, 1000=0.697, 2500=0.6642, 5000=0.6232 (USD); Packaging: Bulk; Part Status: Active; Type: Header, Male Pins, Shrouded (4 Side); Positions Per Level: 3; Plug Wire Entry: -; Termination Style: Solder; Mounting Type: Through Hole; Wire Gauge or Range - AWG: -; Wire Gauge or Range - mm²: -; Color: Green; Operating Temperature: -; Contact Mating Finish: Tin; Features: -; Ingress Protection: -; Screw Size: -; Torque - Screw: -; Wire Strip Length: -; Contact Material: -; Housing Material: Polyamide (PA), Nylon; Insulation Height: 0.472" (12.00mm); ComponentLink1URL: https://media.digikey.com/pdf/Data%20Sheets/Phoenix%20Contact%20PDFs/1755749.pdf; ComponentLink1Description: https://media.digikey.com/pdf/Data%20Sheets/Phoenix%20Contact%20PDFs/1755749.pdf; Supplier Part Number 1: 277-1151-ND
footprint SOCKET_5.08_1X3_180_CLOSE
footprint SOCKET_5.08_1X3_180_CLOSE_WITH_PLUG
pins: 1, 2, 3

## 1755765
designator J?
TERM BLOCK HDR 5POS VERT 5.08MM; Manufacturer: Phoenix Contact; Number of Positions: 5; Number of Levels: 1; Pitch: 0.200" (5.08mm); Header Orientation: Vertical; Current - IEC: 12A; Material Flammability Rating: UL94 V-0; Contact Tail Length: 0.154" (3.90mm); Supplier 1: Digi-Key; Manufacturer Part Number: 1755765; RoHS: RoHS Compliant; Category: Connectors, Interconnects; Stock 1: 3714; Pricing 1: 1=1.67, 10=1.599, 50=1.529, 100=1.4873, 250=1.39, 500=1.2788, 1000=1.1815, 2500=1.1259, 5000=1.0564 (USD); Packaging: Bulk; Part Status: Active; Type: Header, Male Pins, Shrouded (4 Side); Positions Per Level: 5; Plug Wire Entry: -; Termination Style: Solder; Mounting Type: Through Hole; Wire Gauge or Range - AWG: -; Wire Gauge or Range - mm²: -; Color: Green; Operating Temperature: -; Contact Mating Finish: Tin; Features: -; Ingress Protection: -; Screw Size: -; Torque - Screw: -; Wire Strip Length: -; Contact Material: -; Housing Material: Polyamide (PA), Nylon; Insulation Height: 0.472" (12.00mm); ComponentLink1URL: https://media.digikey.com/pdf/Data%20Sheets/Phoenix%20Contact%20PDFs/1755765.pdf; ComponentLink1Description: https://media.digikey.com/pdf/Data%20Sheets/Phoenix%20Contact%20PDFs/1755765.pdf; Supplier Part Number 1: 277-1153-ND
footprint SOCKET_5.08_1X5_180_CLOSE
footprint SOCKET_5.08_1X5_180_CLOSE_WITH_PLUG
pins: 1, 2, 3, 4, 5

## 1755778
designator J?
TERM BLOCK HDR 6POS VERT 5.08MM; Manufacturer 1: Phoenix Contact; Voltage Rating: 250V; Current Rating: 12A; Number of Positions: 6; Number of Levels: 1; Voltage: 300V; Gender: Male; Connector Type: Plug; Approvals: UL,CSA,VDE,cULus,CB; Supplier 1: Digi-Key; Manufacturer Part Number 1: 1755778; Description 1: TERM BLOCK HDR 6POS VERT 5.08MM; Stock 1: 6410; Pricing 1: 1=1.92, 10=1.836, 50=1.7864, 100=1.6695, 250=1.53596, 500=1.41908, 1000=1.35231, 2500=1.26882 (USD); Mount: Through Hole; Weight: 5.467464oz; Contact Plating: Tin; Color: Grey,Green; Housing Color: Green; Housing Material: Polybutylene; Contact Material: Tin; Package Quantity: 50; Packaging: Bulk; Termination: Solder; Max Current Rating: 12A; Number of Positions Per Level: 6; Current: 12A; Number of Contacts: 6; Orientation: Straight; Voltage Rating (DC): 250V; Number of Rows: 1; Number of Poles: 6; Length: 32.48mm; Height: 15.9mm; Pitch: 5.08mm; Depth: 8.6mm; Width: 32.48mm; Lead Free: Lead Free; Flammability Rating: UL94 V-0; REACH SVHC: Unknown; ComponentLink1URL: https://www.verical.com/server-webapp/html/getDatasheet?partID=176346&src-supplier=Verical; ComponentLink1Description: https://www.verical.com/server-webapp/html/getDatasheet?partID=176346&src-supplier=Verical; ComponentLink2URL: https://media.digikey.com/pdf/Data%20Sheets/Phoenix%20Contact%20PDFs/1755778.pdf?src-supplier=Digi-Key; ComponentLink2Description: https://media.digikey.com/pdf/Data%20Sheets/Phoenix%20Contact%20PDFs/1755778.pdf?src-supplier=Digi-Key; ComponentLink3URL: https://www.alliedelec.com/m/d/3bb8ca57e4fd55cff08b5d2ca6e63ae3.pdf?src-supplier=Allied+Electronics; ComponentLink3Description: https://www.alliedelec.com/m/d/3bb8ca57e4fd55cff08b5d2ca6e63ae3.pdf?src-supplier=Allied+Electronics; ComponentLink4URL: https://produktinfo.conrad.com/datenblaetter/550000-574999/568561-da-01-en-GRUNDGEHAEUSE__1755778_100_ST.pdf?src-supplier=Conrad; ComponentLink4Description: https://produktinfo.conrad.com/datenblaetter/550000-574999/568561-da-01-en-GRUNDGEHAEUSE__1755778_100_ST.pdf?src-supplier=Conrad; Supplier Part Number 1: 277-1154-ND
footprint SOCKET_5.08_1X6_180_CLOSE
footprint SOCKET_5.08_1X6_180_CLOSE_WITH_PLUG
pins: 1, 2, 3, 4, 5, 6